# EAGLE library part VSSOP-8 (library SMD_Qualifier)
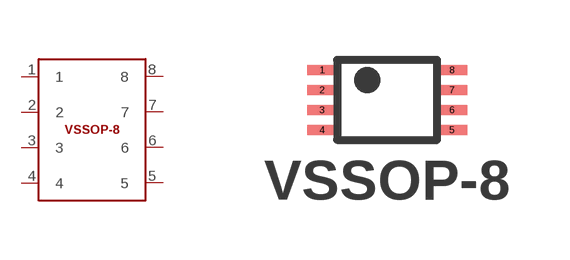
[diagram p9: symbol with the pads of VSSOP-8; footprint VSSOP-8]

Designator prefix -

## VSSOP-8  [VSSOP-8]
1  1
2  2  in
3  3
4  4
5  5
6  6
7  7
8  8

## Footprint VSSOP-8 (pad centres in mm)
VSSOP-8, 0.5 mm pitch
smd 0.75 x 0.25: 1 -1.625,0.75; 2 -1.625,0.25; 3 -1.625,-0.25; 4 -1.625,-0.75; 5 1.625,-0.75; 6 1.625,-0.25; 7 1.625,0.25; 8 1.625,0.75